# Altium schematic symbol library MAX17262REWL+T.SchLib: 1 symbol
Pins are listed as number, name and electrical type; pins without a type are passive.

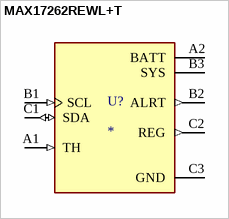
[diagram p0: symbol MAX17262REWL+T]

## MAX17262REWL+T
designator U?
Battery Fuel Gauge IC LiFePO4/Li-ion 9-WLP (1.47x1.45); MP: MAX17262REWL+T; MF: Maxim Integrated; Availability: In Stock; Price: None; Package: WLP-9 Maxim; SnapEDA_Link: https://www.snapeda.com/parts/MAX17262REWL+T/Maxim+Integrated/view-part/?ref=snap; Value: *; Purchase-URL: https://pricing.snapeda.com/search/part/MAX17262REWL+T/?ref=eda; Check_prices: https://www.snapeda.com/parts/MAX17262REWL+T/Maxim+Integrated/view-part/?ref=eda
footprint BGA9N40P3X3_144X146X69N
pins: A1 TH (in), A2 BATT (power), B1 SCL (in), B2 ALRT (out), B3 SYS (power), C1 SDA (io), C2 REG (out), C3 GND (power)